# Altium footprint library ABS07-166-32P768KHZ-T.PcbLib: 3 footprints
Each footprint in its own frame and in the unit in brackets; x right, y up, seen from the top. Pads: shape width x height; smd on the part's side, far side on the other; paste and mask are expansions set on the pad; w line width, h text height; cw(c..) or ccw(c..) is an arc to the next point about the centre after c.
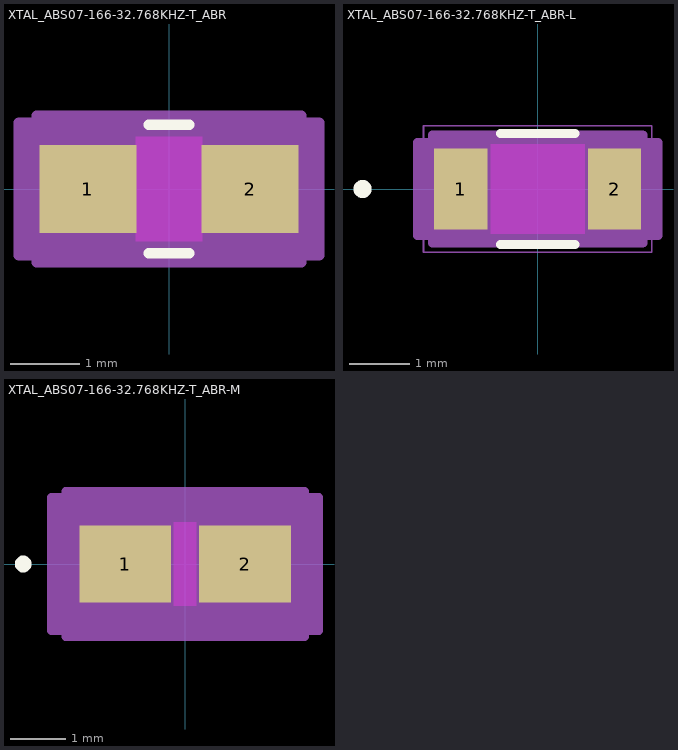
[diagram p0: the footprints below, top view; thin cyan lines are the x and y axes]

## XTAL_ABS07-166-32.768KHZ-T_ABR [mil]
pads (2):
  rect 55x50 smd paste+0 mask+0: 1(-45.96,0) 2(45.96,0)
Top Layer keep-out:
  region: -18.96,-29.5 -18.96,29.5 18.96,29.5 18.96,-29.5
Top Overlay:
  lines w6: -11.44,-36.5 11.44,-36.5 ; -11.44,36.5 11.44,36.5
Keep-Out Layer:
  region: -18.96,-29.5 -18.96,29.5 18.96,29.5 18.96,-29.5
Mechanical 13:
  circle w0: c-44.96,0 r0
  lines w1: -74.96,-41.5 -74.96,41.5 74.96,41.5 74.96,-41.5 -74.96,-41.5 ; -64.96,-31.5 64.96,-31.5 64.96,31.5 -64.96,31.5 -64.96,-31.5
Mechanical 15:
  region: -74.96,-37.5 -84.96,-37.5 -84.96,37.5 -74.96,37.5 -74.96,41.5 74.96,41.5 74.96,37.5 84.96,37.5 84.96,-37.5 74.96,-37.5 74.96,-41.5 -74.96,-41.5
  lines w6: -84.96,-37.5 -84.96,37.5 -74.96,37.5 -74.96,41.5 74.96,41.5 74.96,37.5 84.96,37.5 84.96,-37.5 74.96,-37.5 74.96,-41.5 -74.96,-41.5 -74.96,-37.5 -84.96,-37.5
3D body "XTAL_ABS07-166-32768KHZ-T_ABR.step": height 35, standoff 0, extent -71.46,-42.99 71.46,42.99

## XTAL_ABS07-166-32.768KHZ-T_ABR-L [mil]
pads (2):
  rect 35x53 smd paste+0 mask+0: 1(-50.46,0) 2(50.46,0)
Top Layer keep-out:
  region: -30.96,-29.5 -30.96,29.5 30.96,29.5 30.96,-29.5
Top Overlay:
  circle w6: c-114.96,0 r3
  lines w6: -24.5,-36.5 24.5,-36.5 ; -24.5,36.5 24.5,36.5
Keep-Out Layer:
  region: -30.96,-29.5 -30.96,29.5 30.96,29.5 30.96,-29.5
Mechanical 13:
  circle w0: c-44.96,0 r3
  lines w1: -74.96,-41.5 -74.96,41.5 74.96,41.5 74.96,-41.5 -74.96,-41.5 ; -64.96,-31.5 64.96,-31.5 64.96,31.5 -64.96,31.5 -64.96,-31.5
Mechanical 15:
  region: -68.96,-30.5 -78.96,-30.5 -78.96,30.5 -68.96,30.5 -68.96,35.5 68.96,35.5 68.96,30.5 78.96,30.5 78.96,-30.5 68.96,-30.5 68.96,-35.5 -68.96,-35.5
  lines w6: -78.96,-30.5 -78.96,30.5 -68.96,30.5 -68.96,35.5 68.96,35.5 68.96,30.5 78.96,30.5 78.96,-30.5 68.96,-30.5 68.96,-35.5 -68.96,-35.5 -68.96,-30.5 -78.96,-30.5
3D body: height 10, standoff 0, extent 0,0 10,10

## XTAL_ABS07-166-32.768KHZ-T_ABR-M [mil]
pads (2):
  rect 65x55 smd paste+0 mask+0: 1(-42.46,0) 2(42.46,0)
Top Layer keep-out:
  region: -7.96,-29.5 -7.96,29.5 7.96,29.5 7.96,-29.5
Top Overlay:
  circle w6: c-114.96,0 r3
Keep-Out Layer:
  region: -7.96,-29.5 -7.96,29.5 7.96,29.5 7.96,-29.5
Mechanical 13:
  circle w0: c-44.96,0 r3
  lines w1: -74.96,-41.5 -74.96,41.5 74.96,41.5 74.96,-41.5 -74.96,-41.5 ; -64.96,-31.5 64.96,-31.5 64.96,31.5 -64.96,31.5 -64.96,-31.5
Mechanical 15:
  region: -84.96,-47.5 -94.96,-47.5 -94.96,47.5 -84.96,47.5 -84.96,51.5 84.96,51.5 84.96,47.5 94.96,47.5 94.96,-47.5 84.96,-47.5 84.96,-51.5 -84.96,-51.5
  lines w6: -94.96,-47.5 -94.96,47.5 -84.96,47.5 -84.96,51.5 84.96,51.5 84.96,47.5 94.96,47.5 94.96,-47.5 84.96,-47.5 84.96,-51.5 -84.96,-51.5 -84.96,-47.5 -94.96,-47.5
3D body: height 10, standoff 0, extent 0,0 10,10